# EAGLE library part WTC3243 (library ic)
WTC3243: Temperature controller (Wavelength Electronics) For 100R platinum RTDs, LM335, AD590
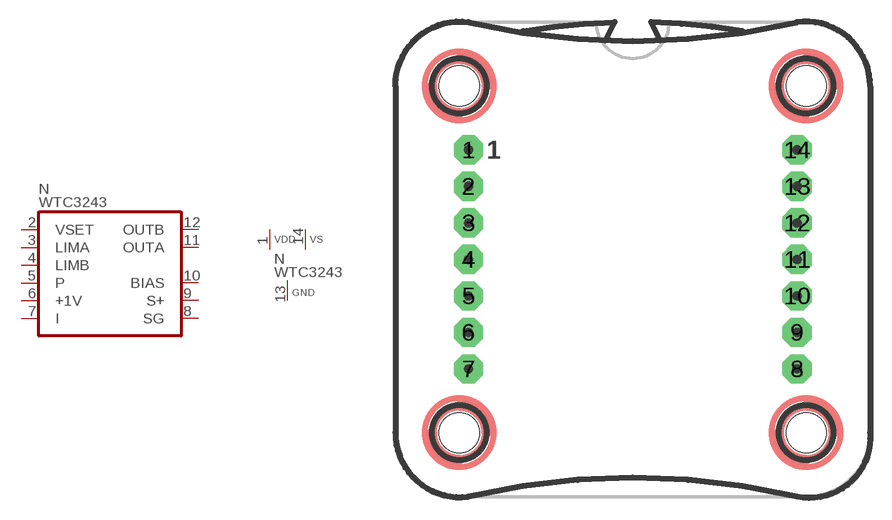
[diagram p63: symbol with the pads of WTC3243; footprint WTC3243]

Designator prefix N; gates  =WTC3243 P=VWTC3243

## WTC3243  [WTC3243]
1  P:VDD  pwr
2   :VSET  in
3   :LIMA
4   :LIMB
5   :P
6   :+1V  out
7   :I
8   :SG
9   :S+
10   :BIAS
11   :OUTA  out
12   :OUTB  out
13  P:GND  pwr
14  P:VS  pwr

## Footprint WTC3243 (pad centres in mm)
WTC3243 Temperature controller housing
drill 0.813 pad 2.032 octagon: 1 -11.43,7.62; 2 -11.43,5.08; 3 -11.43,2.54; 4 -11.43,0; 5 -11.43,-2.54; 6 -11.43,-5.08; 7 -11.43,-7.62; 8 11.43,-7.62; 9 11.43,-5.08; 10 11.43,-2.54; 11 11.43,0; 12 11.43,2.54; 13 11.43,5.08; 14 11.43,7.62
hole 2.794 at -12.065,12.065
hole 2.794 at 12.065,12.065
hole 2.794 at 12.065,-12.065
hole 2.794 at -12.065,-12.065